# EAGLE library part TCA9535PWR (library TI_controller)
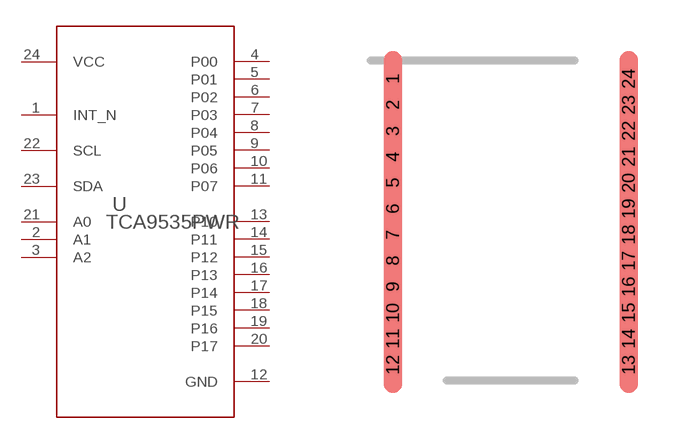
[diagram p1: symbol with the pads of PW0024A_N; footprint PW0024A_N]

Designator prefix U

## TCA9535PWR (APPLICATION_BUILDNUMBER: *; COMPTYPE: IC; MANUFACTURER: Texas Instruments; MOUNTTYPE: SMT; PACKAGEREFERENCE: PW0024A; PARTNUMBER: TCA9535PWR; PIN_COUNT: 24; REFDES: RefDes; ROHS: Y; TYPE: TYPE; VALUE: Value)  [PW0024A_N]
1  INT_N  oc
2  A1  in
3  A2  in
4  P00
5  P01
6  P02
7  P03
8  P04
9  P05
10  P06
11  P07
12  GND  pwr
13  P10
14  P11
15  P12
16  P13
17  P14
18  P15
19  P16
20  P17
21  A0  in
22  SCL  in
23  SDA
24  VCC  pwr

## Footprint PW0024A_N (pad centres in mm)
smd 0.457 x 1.397: 1 -2.95,3.575; 2 -2.95,2.925; 3 -2.95,2.275; 4 -2.95,1.625; 5 -2.95,0.975; 6 -2.95,0.325; 7 -2.95,-0.325; 8 -2.95,-0.975; 9 -2.95,-1.625; 10 -2.95,-2.275; 11 -2.95,-2.925; 12 -2.95,-3.575; 13 2.95,-3.575; 14 2.95,-2.925; 15 2.95,-2.275; 16 2.95,-1.625; 17 2.95,-0.975; 18 2.95,-0.325; 19 2.95,0.325; 20 2.95,0.975; 21 2.95,1.625; 22 2.95,2.275; 23 2.95,2.925; 24 2.95,3.575